# Altium footprint library КТ315.PcbLib: 1 footprints
Each footprint in its own frame and in the unit in brackets; x right, y up, seen from the top. Pads: shape width x height; smd on the part's side, far side on the other; paste and mask are expansions set on the pad; w line width, h text height; cw(c..) or ccw(c..) is an arc to the next point about the centre after c.
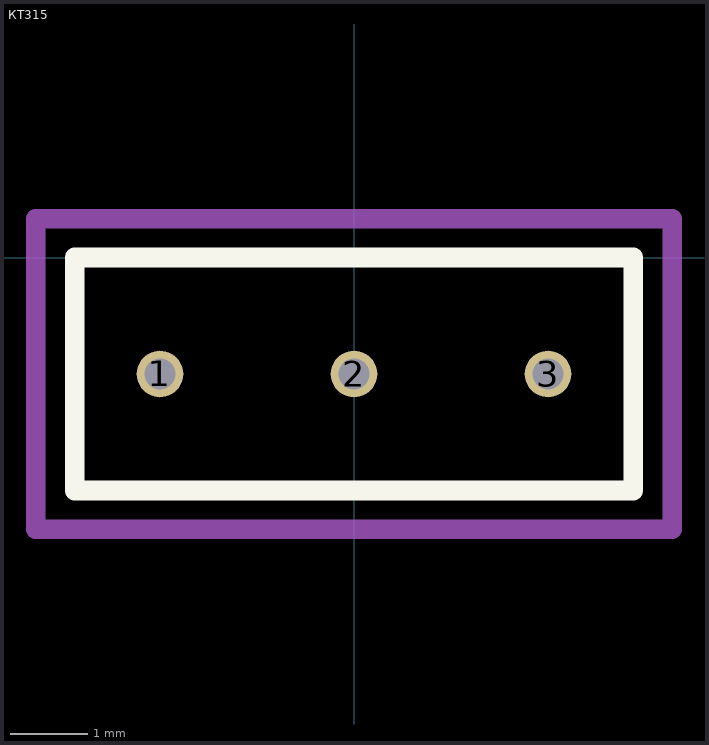
[diagram p0: the footprint, top view; thin cyan lines are the x and y axes]

## КТ315 [mm]
pads (3):
  round 0.6 hole 0.4: 1(-2.5,-1.5) 2(0,-1.5) 3(2.5,-1.5)
Top Overlay:
  lines w0.254: 0,0 3.6,0 ; 3.6,0 3.6,-3 -3.6,-3 -3.6,0 3.6,0
Mechanical 1:
  lines w0.254: -4.1,-3.5 4.1,-3.5 4.1,0.5 -4.1,0.5 -4.1,-3.5